# EAGLE library part 103125-COLIBRI-ARM-SOM-IMX7 (library clackboard_lib)
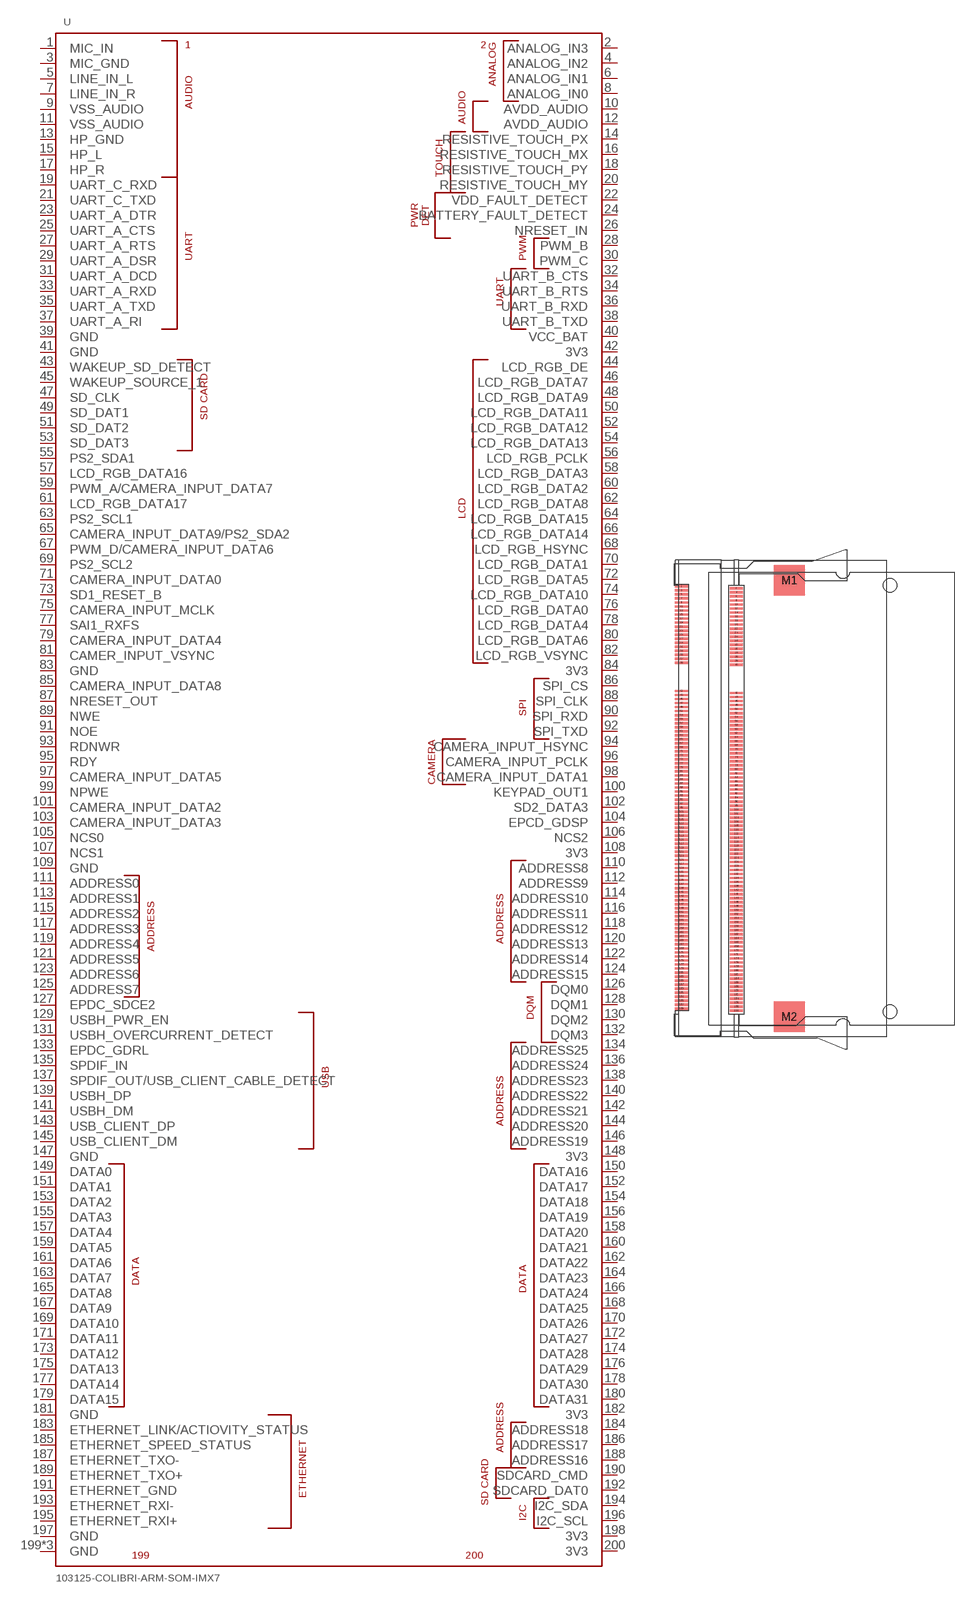
[diagram p2: symbol with the pads of SO-DIMM(200); footprint SO-DIMM(200)]

Designator prefix U

## 103125-COLIBRI-ARM-SOM-IMX7  [SO-DIMM(200)]
1  MIC_IN
2  ANALOG_IN3
3  MIC_GND
4  ANALOG_IN2
5  LINE_IN_L
6  ANALOG_IN1
7  LINE_IN_R
8  ANALOG_IN0
9  VSS_AUDIO  pwr
10  AVDD_AUDIO
11  VSS_AUDIO  pwr
12  AVDD_AUDIO
13  HP_GND
14  RESISTIVE_TOUCH_PX
15  HP_L
16  RESISTIVE_TOUCH_MX
17  HP_R
18  RESISTIVE_TOUCH_PY
19  UART_C_RXD
20  RESISTIVE_TOUCH_MY
21  UART_C_TXD
22  VDD_FAULT_DETECT
23  UART_A_DTR
24  BATTERY_FAULT_DETECT
25  UART_A_CTS
26  NRESET_IN
27  UART_A_RTS
28  PWM_B
29  UART_A_DSR
30  PWM_C
31  UART_A_DCD
32  UART_B_CTS
33  UART_A_RXD
34  UART_B_RTS
35  UART_A_TXD
36  UART_B_RXD
37  UART_A_RI
38  UART_B_TXD
39  GND  pwr
40  VCC_BAT
41  GND  pwr
42  3V3
43  WAKEUP_SD_DETECT
44  LCD_RGB_DE
45  WAKEUP_SOURCE_1
46  LCD_RGB_DATA7
47  SD_CLK
48  LCD_RGB_DATA9
49  SD_DAT1
50  LCD_RGB_DATA11
51  SD_DAT2
52  LCD_RGB_DATA12
53  SD_DAT3
54  LCD_RGB_DATA13
55  PS2_SDA1
56  LCD_RGB_PCLK
57  LCD_RGB_DATA16
58  LCD_RGB_DATA3
59  PWM_A/CAMERA_INPUT_DATA7
60  LCD_RGB_DATA2
61  LCD_RGB_DATA17
62  LCD_RGB_DATA8
63  PS2_SCL1
64  LCD_RGB_DATA15
65  CAMERA_INPUT_DATA9/PS2_SDA2
66  LCD_RGB_DATA14
67  PWM_D/CAMERA_INPUT_DATA6
68  LCD_RGB_HSYNC
69  PS2_SCL2
70  LCD_RGB_DATA1
71  CAMERA_INPUT_DATA0
72  LCD_RGB_DATA5
73  SD1_RESET_B
74  LCD_RGB_DATA10
75  CAMERA_INPUT_MCLK
76  LCD_RGB_DATA0
77  SAI1_RXFS
78  LCD_RGB_DATA4
79  CAMERA_INPUT_DATA4
80  LCD_RGB_DATA6
81  CAMER_INPUT_VSYNC
82  LCD_RGB_VSYNC
83  GND
84  3V3
85  CAMERA_INPUT_DATA8
86  SPI_CS
87  NRESET_OUT
88  SPI_CLK
89  NWE
90  SPI_RXD
91  NOE
92  SPI_TXD
93  RDNWR
94  CAMERA_INPUT_HSYNC
95  RDY
96  CAMERA_INPUT_PCLK
97  CAMERA_INPUT_DATA5
98  CAMERA_INPUT_DATA1
99  NPWE
100  KEYPAD_OUT1
101  CAMERA_INPUT_DATA2
102  SD2_DATA3
103  CAMERA_INPUT_DATA3
104  EPCD_GDSP
105  NCS0
106  NCS2
107  NCS1
108  3V3
109  GND
110  ADDRESS8
111  ADDRESS0
112  ADDRESS9
113  ADDRESS1
114  ADDRESS10
115  ADDRESS2
116  ADDRESS11
117  ADDRESS3
118  ADDRESS12
119  ADDRESS4
120  ADDRESS13
121  ADDRESS5
122  ADDRESS14
123  ADDRESS6
124  ADDRESS15
125  ADDRESS7
126  DQM0
127  EPDC_SDCE2
128  DQM1
129  USBH_PWR_EN
130  DQM2
131  USBH_OVERCURRENT_DETECT
132  DQM3
133  EPDC_GDRL
134  ADDRESS25
135  SPDIF_IN
136  ADDRESS24
137  SPDIF_OUT/USB_CLIENT_CABLE_DETECT
138  ADDRESS23
139  USBH_DP
140  ADDRESS22
141  USBH_DM
142  ADDRESS21
143  USB_CLIENT_DP
144  ADDRESS20
145  USB_CLIENT_DM
146  ADDRESS19
147  GND
148  3V3
149  DATA0
150  DATA16
151  DATA1
152  DATA17
153  DATA2
154  DATA18
155  DATA3
156  DATA19
157  DATA4
158  DATA20
159  DATA5
160  DATA21
161  DATA6
162  DATA22
163  DATA7
164  DATA23
165  DATA8
166  DATA24
167  DATA9
168  DATA25
169  DATA10
170  DATA26
171  DATA11
172  DATA27
173  DATA12
174  DATA28
175  DATA13
176  DATA29
177  DATA14
178  DATA30
179  DATA15
180  DATA31
181  GND
182  3V3
183  ETHERNET_LINK/ACTIOVITY_STATUS
184  ADDRESS18
185  ETHERNET_SPEED_STATUS
186  ADDRESS17
187  ETHERNET_TXO-
188  ADDRESS16
189  ETHERNET_TXO+
190  SDCARD_CMD
191  ETHERNET_GND
192  SDCARD_DAT0
193  ETHERNET_RXI-
194  I2C_SDA
195  ETHERNET_RXI+
196  I2C_SCL
197  GND
198  3V3
199  GND
200  3V3
M1  GND
M2  GND

## Footprint SO-DIMM(200) (pad centres in mm)
smd 2 x 0.35: 1 -4.1,31.65; 2 4.1,31.35; 3 -4.1,31.05; 4 4.1,30.75; 5 -4.1,30.45; 6 4.1,30.15; 7 -4.1,29.85; 8 4.1,29.55; 9 -4.1,29.25; 10 4.1,28.95; 11 -4.1,28.65; 12 4.1,28.35; 13 -4.1,28.05; 14 4.1,27.75; 15 -4.1,27.45; 16 4.1,27.15; 17 -4.1,26.85; 18 4.1,26.55; 19 -4.1,26.25; 20 4.1,25.95; 21 -4.1,25.65; 22 4.1,25.35; 23 -4.1,25.05; 24 4.1,24.75; 25 -4.1,24.45; 26 4.1,24.15; 27 -4.1,23.85; 28 4.1,23.55; 29 -4.1,23.25; 30 4.1,22.95; 31 -4.1,22.65; 32 4.1,22.35; 33 -4.1,22.05; 34 4.1,21.75; 35 -4.1,21.45; 36 4.1,21.15; 37 -4.1,20.85; 38 4.1,20.55; 39 -4.1,20.25; 40 4.1,19.95; 41 -4.1,16.05; 42 4.1,15.75; 43 -4.1,15.45; 44 4.1,15.15; 45 -4.1,14.85; 46 4.1,14.55; 47 -4.1,14.25; 48 4.1,13.95; 49 -4.1,13.65; 50 4.1,13.35; 51 -4.1,13.05; 52 4.1,12.75; 53 -4.1,12.45; 54 4.1,12.15; 55 -4.1,11.85; 56 4.1,11.55; 57 -4.1,11.25; 58 4.1,10.95; 59 -4.1,10.65; 60 4.1,10.35; 61 -4.1,10.05; 62 4.1,9.75; 63 -4.1,9.45; 64 4.1,9.15; 65 -4.1,8.85; 66 4.1,8.55; 67 -4.1,8.25; 68 4.1,7.95; 69 -4.1,7.65; 70 4.1,7.35; 71 -4.1,7.05; 72 4.1,6.75; 73 -4.1,6.45; 74 4.1,6.15; 75 -4.1,5.85; 76 4.1,5.55; 77 -4.1,5.25; 78 4.1,4.95; 79 -4.1,4.65; 80 4.1,4.35; 81 -4.1,4.05; 82 4.1,3.75; 83 -4.1,3.45; 84 4.1,3.15; 85 -4.1,2.85; 86 4.1,2.55; 87 -4.1,2.25; 88 4.1,1.95; 89 -4.1,1.65; 90 4.1,1.35; 91 -4.1,1.05; 92 4.1,0.75; 93 -4.1,0.45; 94 4.1,0.15; 95 -4.1,-0.15; 96 4.1,-0.45; 97 -4.1,-0.75; 98 4.1,-1.05; 99 -4.1,-1.35; 100 4.1,-1.65; 101 -4.1,-1.95; 102 4.1,-2.25; 103 -4.1,-2.55; 104 4.1,-2.85; 105 -4.1,-3.15; 106 4.1,-3.45; 107 -4.1,-3.75; 108 4.1,-4.05; 109 -4.1,-4.35; 110 4.1,-4.65; 111 -4.1,-4.95; 112 4.1,-5.25; 113 -4.1,-5.55; 114 4.1,-5.85; 115 -4.1,-6.15; 116 4.1,-6.45; 117 -4.1,-6.75; 118 4.1,-7.05; 119 -4.1,-7.35; 120 4.1,-7.65; 121 -4.1,-7.95; 122 4.1,-8.25; 123 -4.1,-8.55; 124 4.1,-8.85; 125 -4.1,-9.15; 126 4.1,-9.45; 127 -4.1,-9.75; 128 4.1,-10.05; 129 -4.1,-10.35; 130 4.1,-10.65; 131 -4.1,-10.95; 132 4.1,-11.25; 133 -4.1,-11.55; 134 4.1,-11.85; 135 -4.1,-12.15; 136 4.1,-12.45; 137 -4.1,-12.75; 138 4.1,-13.05; 139 -4.1,-13.35; 140 4.1,-13.65; 141 -4.1,-13.95; 142 4.1,-14.25; 143 -4.1,-14.55; 144 4.1,-14.85; 145 -4.1,-15.15; 146 4.1,-15.45; 147 -4.1,-15.75; 148 4.1,-16.05; 149 -4.1,-16.35; 150 4.1,-16.65; 151 -4.1,-16.95; 152 4.1,-17.25; 153 -4.1,-17.55; 154 4.1,-17.85; 155 -4.1,-18.15; 156 4.1,-18.45; 157 -4.1,-18.75; 158 4.1,-19.05; 159 -4.1,-19.35; 160 4.1,-19.65; 161 -4.1,-19.95; 162 4.1,-20.25; 163 -4.1,-20.55; 164 4.1,-20.85; 165 -4.1,-21.15; 166 4.1,-21.45; 167 -4.1,-21.75; 168 4.1,-22.05; 169 -4.1,-22.35; 170 4.1,-22.65; 171 -4.1,-22.95; 172 4.1,-23.25; 173 -4.1,-23.55; 174 4.1,-23.85; 175 -4.1,-24.15; 176 4.1,-24.45; 177 -4.1,-24.75; 178 4.1,-25.05; 179 -4.1,-25.35; 180 4.1,-25.65; 181 -4.1,-25.95; 182 4.1,-26.25; 183 -4.1,-26.55; 184 4.1,-26.85; 185 -4.1,-27.15; 186 4.1,-27.45; 187 -4.1,-27.75; 188 4.1,-28.05; 189 -4.1,-28.35; 190 4.1,-28.65; 191 -4.1,-28.95; 192 4.1,-29.25; 193 -4.1,-29.55; 194 4.1,-29.85; 195 -4.1,-30.15; 196 4.1,-30.45; 197 -4.1,-30.75; 198 4.1,-31.05; 199 -4.1,-31.35; 200 4.1,-31.65
smd 4.6 x 4.5: M1 12,32.55; M2 12,-32.55
hole 2 at 27,31.8
hole 2 at 27,-31.8